# Altium footprint library SOP-8_268mil.PcbLib: 1 footprints
Each footprint in its own frame and in the unit in brackets; x right, y up, seen from the top. Pads: shape width x height; smd on the part's side, far side on the other; paste and mask are expansions set on the pad; w line width, h text height; cw(c..) or ccw(c..) is an arc to the next point about the centre after c.
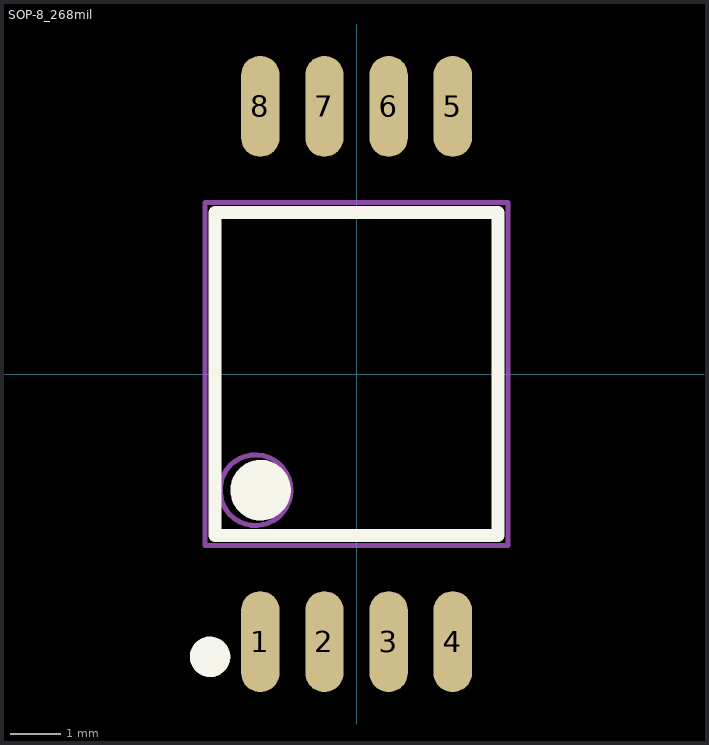
[diagram p0: the footprint, top view; thin cyan lines are the x and y axes]

## SOP-8_268mil [mm]
pads (8):
  oval 0.76x2 smd: 1(-1.905,-5.3) 2(-0.635,-5.3) 3(0.635,-5.3) 4(1.905,-5.3) 5(1.905,5.3) 6(0.635,5.3) 7(-0.635,5.3) 8(-1.905,5.3)
Top Overlay:
  circle w0.4: c-2.9,-5.6 r0.2
  circle w0.6: c-1.9,-2.3 r0.3
  lines w0.254: -2.8,-3.2 -2.8,3.2 2.8,3.2 2.8,-3.2 -2.8,-3.2
Mechanical 13:
  circle w0.1: c-2,-2.3 r0.7
  lines w0.1: -3,-3.4 -3,3.4 3,3.4 3,-3.4 -3,-3.4